# Altium footprint library minh_pcbLIB.PcbLib: 7 footprints
Each footprint in its own frame and in the unit in brackets; x right, y up, seen from the top. Pads: shape width x height; smd on the part's side, far side on the other; paste and mask are expansions set on the pad; w line width, h text height; cw(c..) or ccw(c..) is an arc to the next point about the centre after c.
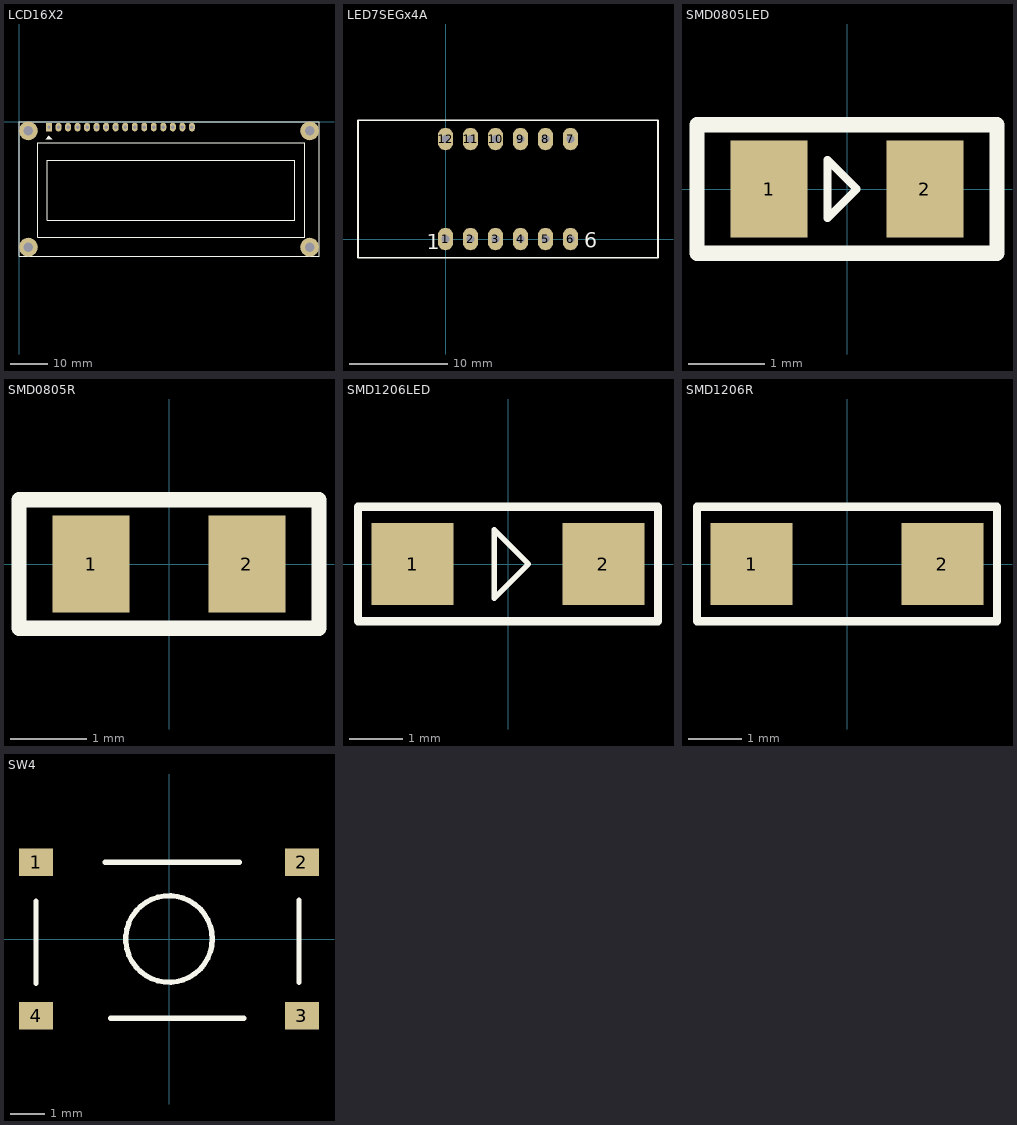
[diagram p0: the footprints below, top view; thin cyan lines are the x and y axes]

## LCD16X2 [mm] "LCD dipslay 16x2, 16 pin"
height 10.16
pads (20):
  rect 1.575x2.286 hole 0.914: 1(8,-1.5)
  oval 1.575x2.286 hole 0.914: 2(10.54,-1.5) 3(13.08,-1.5) 4(15.62,-1.5) 5(18.16,-1.5) 6(20.7,-1.5) 7(23.24,-1.5) 8(25.78,-1.5) 9(28.32,-1.5) 10(30.86,-1.5) 11(33.4,-1.5) 12(35.94,-1.5) 13(38.48,-1.5) 14(41.02,-1.5) 15(43.56,-1.5) 16(46.1,-1.5)
  round 5 hole 2.5: "Hole 0"(2.5,-2.5) "Hole 0"(77.5,-2.5) "Hole 1"(2.5,-33.5) "Hole 1"(77.5,-33.5)
Top Overlay:
  region: 8,-3.786 7.111,-4.675 8.889,-4.675
  lines w0.178: 0,-36 80,-36 80,0 0,0 0,-36 ; 5,-30.9 76.2,-30.9 76.2,-5.7 5,-5.7 5,-30.9 ; 7.55,-26.3 73.55,-26.3 73.55,-10.3 7.55,-10.3 7.55,-26.3
3D body: height 20.52, standoff 7.31, extent 0,-36.03 80.5,0.47

## LED7SEGx4A [mil] "DIP 12 Leads; Body 32x 15 mm; Pitch 0.5 mm"
height 300
pads (12):
  oval 60x90 hole 31: 1(0,0) 2(100,0) 3(200,0) 4(300,0) 5(400,0) 6(500,0) 7(500,400) 8(400,400) 9(300,400) 10(200,400) 11(100,400) 12(0,400)
Top Overlay:
  lines w7: -350,-75 -350,475 850,475 850,-75 -350,-75
  text "1" at -75,-40 h60
  text "6" at 555,-35 h60
3D body: height 531.7, standoff 195.7, extent -351,-60 850,460

## SMD0805LED [mil] "Chip LED, Body 2.0 x 1.3 mm (LxW typ)"
height 100
pads (2):
  rect 39.37x50 smd: 1(-40,0) 2(40,0)
Top Overlay:
  lines w3.94: -10,-15 -10,15 5,0 -10,-15
  lines w7.87: 77,32 77,-33 -77,-33 -77,33 77,33
3D body: height 30.79, standoff 0, extent -39.37,-24.6 39.37,24.61

## SMD0805R [mil] "Chip Resistor; Body 2.0 x 1.3 mm (LxW typ)"
height 100
pads (2):
  rect 39.37x50 smd: 1(-40,0) 2(40,0)
Top Overlay:
  lines w7.87: 77,32 77,-33 -77,-33 -77,33 77,33
3D body: height 30.79, standoff 0, extent -39.37,-24.6 39.37,24.61

## SMD1206LED [mil]
pads (2):
  rect 60x60 smd: 1(-70,0) 2(70,0)
Top Overlay:
  lines w3.94: -10,-25 -10,25 15,0 -10,-25
  lines w6: -110,-42 -110,0 -110,42 110,42 110,0 110,-42 -110,-42
3D body: height 19.68, standoff 0, extent -72.5,-30 72.5,30

## SMD1206R [mil]
pads (2):
  rect 60x60 smd: 1(-70,0) 2(70,0)
Top Overlay:
  lines w6: -110,-42 -110,0 -110,42 110,42 110,0 110,-42 -110,-42
3D body: height 19.68, standoff 0, extent -72.5,-30 72.5,30

## SW4 [mm] "SW button 4pin, 6x6x3mm"
height 2.54
pads (4):
  rect 1x0.8 smd: 1(-3.9,2.25) 2(3.9,2.25) 3(3.9,-2.25) 4(-3.9,-2.25)
Top Overlay:
  circle w0.152: c0,0 r1.27
  lines w0.152: -3.9,-1.306 -3.9,1.107 ; -1.868,2.25 2.069,2.25 ; -1.716,-2.322 2.196,-2.322 ; 3.81,-1.27 3.81,1.143